# EAGLE library part WRL-13678 (library chips)
ESP8266 WiFi Module https://www.mouser.com/ds/2/813/ESP8266ModuleV1-1095236.pdf
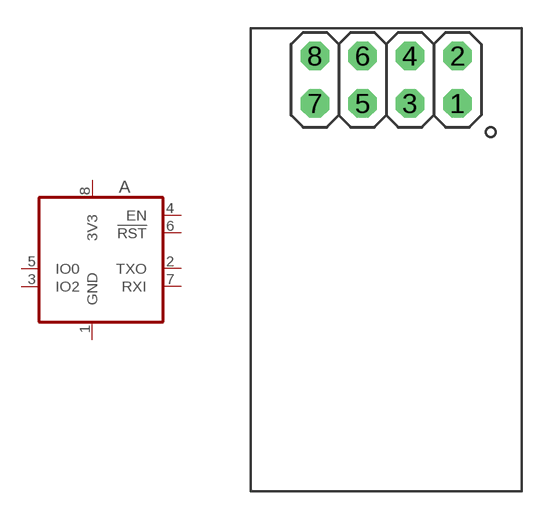
[diagram p88: symbol with the pads of WRL-13678; footprint WRL-13678]

Designator prefix A

## WRL-13678 (DIGIKEY: 1568-1235-ND)  [WRL-13678]
1  GND  pwr
2  TXO
3  IO2
4  EN
5  IO0
6  !RST
7  RXI
8  3V3  pwr

## Footprint WRL-13678 (pad centres in mm)
drill 1.016 octagon: 1 3.81,-1.27; 2 3.81,1.27; 3 1.27,-1.27; 4 1.27,1.27; 5 -1.27,-1.27; 6 -1.27,1.27; 7 -3.81,-1.27; 8 -3.81,1.27